# EAGLE library part CON-USB-READER-V18 (library weller-eagle)
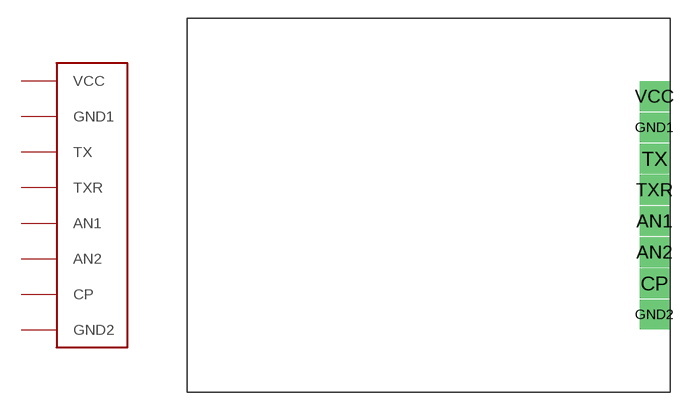
[diagram p2: symbol with the pads of CON-USB-READER-V18; footprint CON-USB-READER-V18]

Designator prefix -

## CON-USB-READER-V18  [CON-USB-READER-V18]
AN1  AN1
AN2  AN2
CP  CP
GND1  GND1
GND2  GND2
TX  TX
TXR  TXR
VCC  VCC

## Footprint CON-USB-READER-V18 (pad centres in mm)
drill 1.62 pad 2.134 square: AN1 38.1,13.97; AN2 38.1,11.43; CP 38.1,8.89; GND1 38.1,21.59; GND2 38.1,6.35; TX 38.1,19.05; TXR 38.1,16.51; VCC 38.1,24.13